# Altium footprint library PQFN50P700X700X104-49N.PcbLib: 1 footprints
Each footprint in its own frame and in the unit in brackets; x right, y up, seen from the top. Pads: shape width x height; smd on the part's side, far side on the other; paste and mask are expansions set on the pad; w line width, h text height; cw(c..) or ccw(c..) is an arc to the next point about the centre after c.
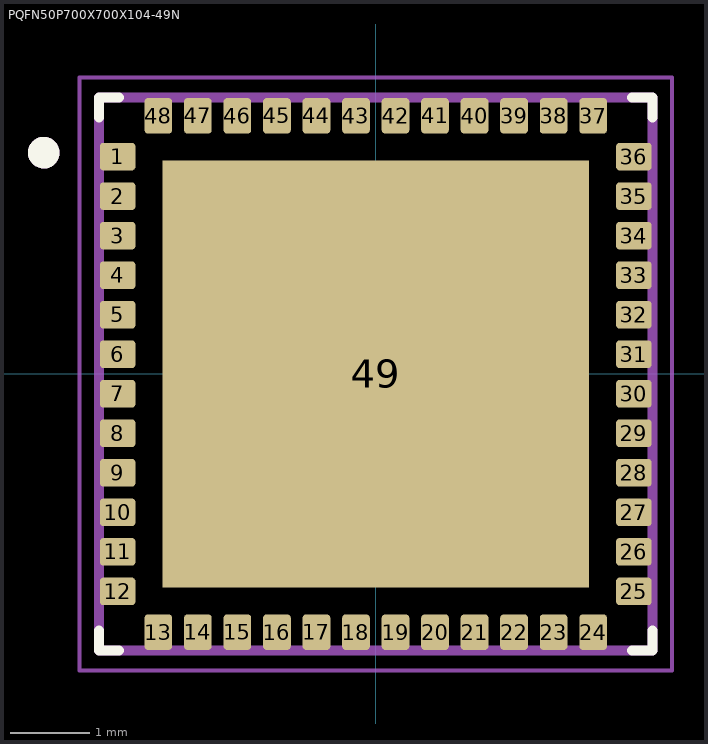
[diagram p0: the footprint, top view; thin cyan lines are the x and y axes]

## PQFN50P700X700X104-49N [mm]
pads (49):
  rrect25% 0.45x0.35 smd: 1(-3.265,2.75) 2(-3.265,2.25) 3(-3.265,1.75) 4(-3.265,1.25) 5(-3.265,0.75) 6(-3.265,0.25) 7(-3.265,-0.25) 8(-3.265,-0.75) 9(-3.265,-1.25) 10(-3.265,-1.75) 11(-3.265,-2.25) 12(-3.265,-2.75) 25(3.265,-2.75) 26(3.265,-2.25) 27(3.265,-1.75) 28(3.265,-1.25) 29(3.265,-0.75) 30(3.265,-0.25) 31(3.265,0.25) 32(3.265,0.75) 33(3.265,1.25) 34(3.265,1.75) 35(3.265,2.25) 36(3.265,2.75)
  rrect25% 0.35x0.45 smd: 13(-2.75,-3.265) 14(-2.25,-3.265) 15(-1.75,-3.265) 16(-1.25,-3.265) 17(-0.75,-3.265) 18(-0.25,-3.265) 19(0.25,-3.265) 20(0.75,-3.265) 21(1.25,-3.265) 22(1.75,-3.265) 23(2.25,-3.265) 24(2.75,-3.265) 37(2.75,3.265) 38(2.25,3.265) 39(1.75,3.265) 40(1.25,3.265) 41(0.75,3.265) 42(0.25,3.265) 43(-0.25,3.265) 44(-0.75,3.265) 45(-1.25,3.265) 46(-1.75,3.265) 47(-2.25,3.265) 48(-2.75,3.265)
  rect 5.4x5.4 smd paste-4: 49(0,0)
Top Overlay:
  circle w0.2: c-4.2,2.8 r0.1
  lines w0.127: -3.5,-3.245 -3.5,-3.5 -3.245,-3.5 ; -3.5,3.245 -3.5,3.5 -3.245,3.5 ; 3.245,-3.5 3.5,-3.5 3.5,-3.245 ; 3.245,3.5 3.5,3.5 3.5,3.245
Top Paste:
  region: 2.305,0.395 0.395,0.395 0.395,2.305 2.305,2.305
  region: -0.395,0.395 -2.305,0.395 -2.305,2.305 -0.395,2.305
  region: -0.395,-2.305 -2.305,-2.305 -2.305,-0.395 -0.395,-0.395
  region: 2.305,-2.305 0.395,-2.305 0.395,-0.395 2.305,-0.395
Mechanical 13:
  circle w0.2: c-4.2,2.8 r0.1
  lines w0.127: -3.5,-3.5 -3.5,3.5 3.5,3.5 3.5,-3.5 -3.5,-3.5
Mechanical 15:
  lines w0.05: -3.75,-3.75 3.75,-3.75 3.75,3.75 -3.75,3.75 -3.75,-3.75
3D body "step_temp.STEP": height 1.04, standoff 0, extent -3.5,-3.5 3.5,3.5